# Altium footprint library BCP56.PcbLib: 1 footprints
Each footprint in its own frame and in the unit in brackets; x right, y up, seen from the top. Pads: shape width x height; smd on the part's side, far side on the other; paste and mask are expansions set on the pad; w line width, h text height; cw(c..) or ccw(c..) is an arc to the next point about the centre after c.
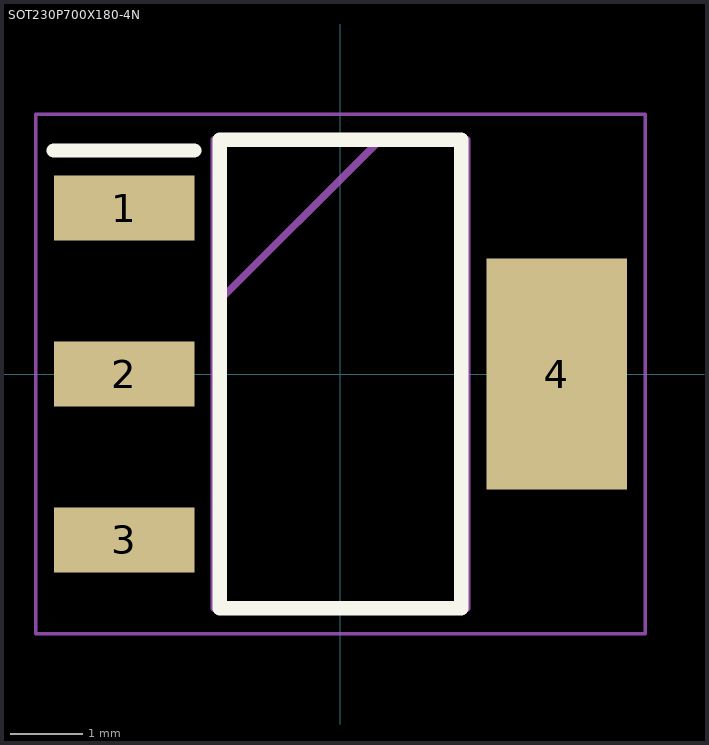
[diagram p0: the footprint, top view; thin cyan lines are the x and y axes]

## SOT230P700X180-4N [mm]
pads (4):
  rect 1.95x0.9 smd: 1(-3,2.3) 2(-3,0) 3(-3,-2.3)
  rect 1.95x3.2 smd: 4(3,0)
Top Overlay:
  lines w0.2: -3.975,3.1 -2.025,3.1 ; -1.675,-3.25 -1.675,3.25 1.675,3.25 1.675,-3.25 -1.675,-3.25
Mechanical 13:
  lines w0.1: -1.75,0.95 0.55,3.25 ; -1.75,-3.25 -1.75,3.25 1.75,3.25 1.75,-3.25 -1.75,-3.25
Mechanical 15:
  lines w0.05: -4.225,-3.6 -4.225,3.6 4.225,3.6 4.225,-3.6 -4.225,-3.6
3D body "BCP56,115.stp": height 1.8, standoff 0, extent -3.5,-3.25 3.5,3.25